# Altium schematic symbol library kmilo17pet-TI_BattMgmt.SchLib: 950 symbols (part 6 of 60)
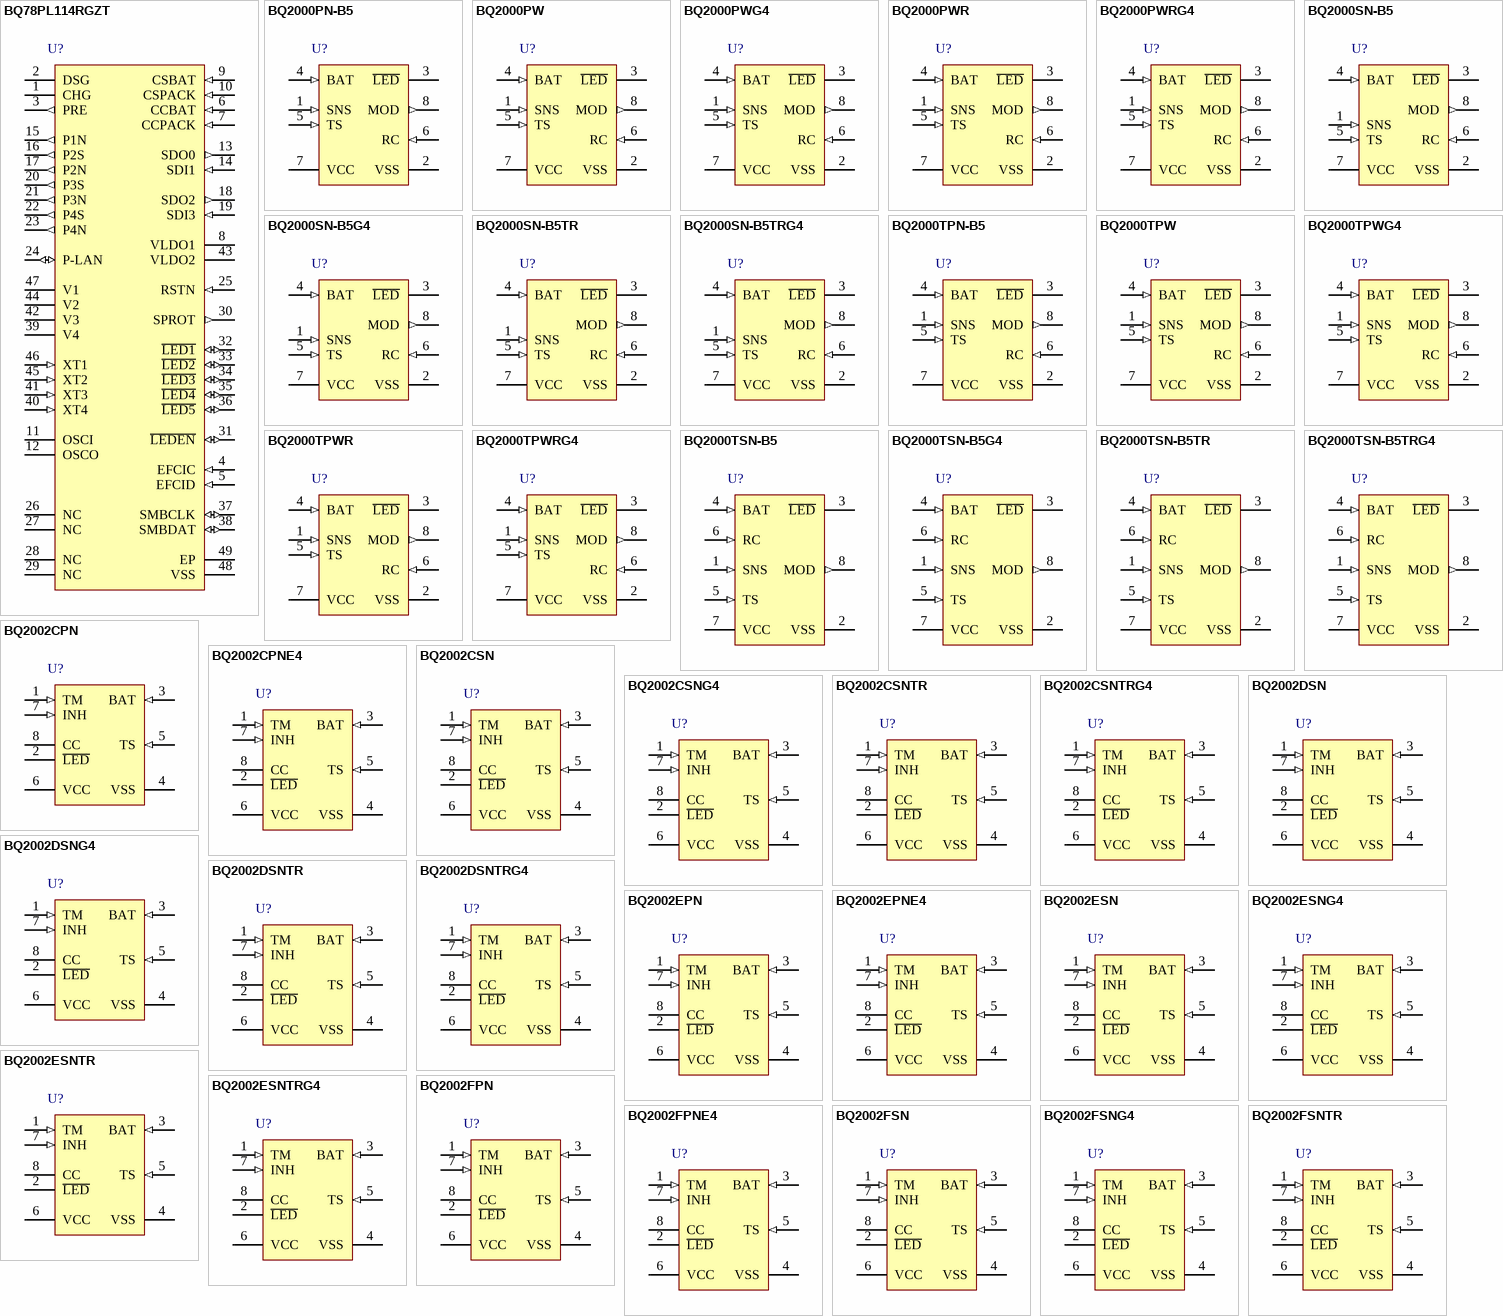
[diagram p39: symbols BQ78PL114RGZT to BQ2002FSNTR]

## BQ2000TPW
designator U?
Switch-Mode Multi-Chemistry Battery Charger with dT / dt Termination, 4 V, -20 to 70 degC, 8-pin TSSOP (PW), Green (RoHS & no Sb/Br); PartNumber: BQ2000TPW; Manufacturer: Texas Instruments; Lead Acid: N; Li-Ion: Y; SubFamily: Battery Charge Management; Vin(Min)(V): 4; DatasheetVersion: SLUS149D; PackageVersion: revG, Feb-2011; PackageReference: PW8; PackageDescription: 8-Pin Plastic Thin Small Outline Package 3 x 4.4 mm Body ,0.65 mm Pitch; Supplier 1: Digi-Key; Supplier Part Number 1: 296-12360-5-ND; Supplier Part Number 3: 595-BQ2000TPW; Eco-Plan: Green (RoHS & no Sb/Br); Li-Polymer: Y; NiCd: Y; NiMH: Y; Over Voltage Protection: N; Mounting Technology: Surface Mount; Code_JEDEC: MO-153; ComponentLink1Description: Datasheet; ComponentLink1URL: http://www.ti.com/general/docs/lit/getliterature.tsp?genericPartNumber=BQ2000T&fileType=pdf
footprint PW8_N (TSOP, 8-Leads, Body 3x4.4mm, Pitch 0.65mm, IPC Medium Density)
footprint PW8_L (TSOP, 8-Leads, Body 3x4.4mm, Pitch 0.65mm, IPC High Density)
footprint PW8_M (TSOP, 8-Leads, Body 3x4.4mm, Pitch 0.65mm, IPC Low Density)
pins: 1 SNS (in) "Current-sense input. Enables the bq2000T to sense the battery current via the voltage developed on this pin by an external sense-resistor connected in series with the battery pack", 2 VSS (power) "System ground. Connect to the battery¡¯s negative terminal", 3 ~{LED} (hiz) "Charge-status output. Open-drain output that indicates the charging status by turning on, turning off, or flashing an external LED, driven through a resistor.", 4 BAT (in) "Battery-voltage input. Battery-voltage sense input. A simple resistive divider, across the battery terminals, generates this input.", 5 TS (in) "Temperature-sense input. Input for an external battery-temperature monitoring circuit. An external resistive divider network with a negative temperature-coefficient thermistor sets the lower and upper temperature thresholds.", 6 RC (in) "Timer-program input. Used to program the maximum fast charge-time, maximum top-off charge-time, hold-off period, trickle charge rate, and to disable or enable top-off charge. A capacitor from VCC and a resistor to ground (See Datasheet)", 7 VCC (power) "Supply-voltage input. Recommended bypassing is 10 uF + 0.1 uF to 0.22 uF of decoupling capacitance near the pin.", 8 MOD (out) "Modulation-control output. Push-pull output that controls the charging current to the battery. MOD switches high to enable charging current to flow and low to inhibit charging-current flow."

## BQ2000TPWG4
designator U?
Switch-Mode Multi-Chemistry Battery Charger with dT / dt Termination, 4 V, -20 to 70 degC, 8-pin TSSOP (PW), Green (RoHS & no Sb/Br); PartNumber: BQ2000TPWG4; Manufacturer: Texas Instruments; Lead Acid: N; Li-Ion: Y; SubFamily: Battery Charge Management; Vin(Min)(V): 4; DatasheetVersion: SLUS149D; PackageVersion: revG, Feb-2011; PackageReference: PW8; PackageDescription: 8-Pin Plastic Thin Small Outline Package 3 x 4.4 mm Body ,0.65 mm Pitch; Supplier 1: Digi-Key; Supplier Part Number 1: BQ2000TPWG4-ND; Supplier Part Number 3: 595-BQ2000TPWG4; Eco-Plan: Green (RoHS & no Sb/Br); Li-Polymer: Y; NiCd: Y; NiMH: Y; Over Voltage Protection: N; Mounting Technology: Surface Mount; Code_JEDEC: MO-153; ComponentLink1Description: Datasheet; ComponentLink1URL: http://www.ti.com/general/docs/lit/getliterature.tsp?genericPartNumber=BQ2000T&fileType=pdf
footprint PW8_N (TSOP, 8-Leads, Body 3x4.4mm, Pitch 0.65mm, IPC Medium Density)
footprint PW8_L (TSOP, 8-Leads, Body 3x4.4mm, Pitch 0.65mm, IPC High Density)
footprint PW8_M (TSOP, 8-Leads, Body 3x4.4mm, Pitch 0.65mm, IPC Low Density)
pins: 1 SNS (in) "Current-sense input. Enables the bq2000T to sense the battery current via the voltage developed on this pin by an external sense-resistor connected in series with the battery pack", 2 VSS (power) "System ground. Connect to the battery¡¯s negative terminal", 3 ~{LED} (hiz) "Charge-status output. Open-drain output that indicates the charging status by turning on, turning off, or flashing an external LED, driven through a resistor.", 4 BAT (in) "Battery-voltage input. Battery-voltage sense input. A simple resistive divider, across the battery terminals, generates this input.", 5 TS (in) "Temperature-sense input. Input for an external battery-temperature monitoring circuit. An external resistive divider network with a negative temperature-coefficient thermistor sets the lower and upper temperature thresholds.", 6 RC (in) "Timer-program input. Used to program the maximum fast charge-time, maximum top-off charge-time, hold-off period, trickle charge rate, and to disable or enable top-off charge. A capacitor from VCC and a resistor to ground (See Datasheet)", 7 VCC (power) "Supply-voltage input. Recommended bypassing is 10 uF + 0.1 uF to 0.22 uF of decoupling capacitance near the pin.", 8 MOD (out) "Modulation-control output. Push-pull output that controls the charging current to the battery. MOD switches high to enable charging current to flow and low to inhibit charging-current flow."

## BQ2000TPWR
designator U?
Switch-Mode Multi-Chemistry Battery Charger with dT / dt Termination, 4 V, -20 to 70 degC, 8-pin TSSOP (PW), Green (RoHS & no Sb/Br); PartNumber: BQ2000TPWR; Manufacturer: Texas Instruments; Lead Acid: N; Li-Ion: Y; SubFamily: Battery Charge Management; Vin(Min)(V): 4; DatasheetVersion: SLUS149D; PackageVersion: revG, Feb-2011; PackageReference: PW8; PackageDescription: 8-Pin Plastic Thin Small Outline Package 3 x 4.4 mm Body ,0.65 mm Pitch; Supplier 1: Digi-Key; Supplier Part Number 1: BQ2000TPWR-ND; Supplier Part Number 3: 595-BQ2000TPWR; Eco-Plan: Green (RoHS & no Sb/Br); Li-Polymer: Y; NiCd: Y; NiMH: Y; Over Voltage Protection: N; Mounting Technology: Surface Mount; Code_JEDEC: MO-153; ComponentLink1Description: Datasheet; ComponentLink1URL: http://www.ti.com/general/docs/lit/getliterature.tsp?genericPartNumber=BQ2000T&fileType=pdf
footprint PW8_N (TSOP, 8-Leads, Body 3x4.4mm, Pitch 0.65mm, IPC Medium Density)
footprint PW8_L (TSOP, 8-Leads, Body 3x4.4mm, Pitch 0.65mm, IPC High Density)
footprint PW8_M (TSOP, 8-Leads, Body 3x4.4mm, Pitch 0.65mm, IPC Low Density)
pins: 1 SNS (in) "Current-sense input. Enables the bq2000T to sense the battery current via the voltage developed on this pin by an external sense-resistor connected in series with the battery pack", 2 VSS (power) "System ground. Connect to the battery¡¯s negative terminal", 3 ~{LED} (hiz) "Charge-status output. Open-drain output that indicates the charging status by turning on, turning off, or flashing an external LED, driven through a resistor.", 4 BAT (in) "Battery-voltage input. Battery-voltage sense input. A simple resistive divider, across the battery terminals, generates this input.", 5 TS (in) "Temperature-sense input. Input for an external battery-temperature monitoring circuit. An external resistive divider network with a negative temperature-coefficient thermistor sets the lower and upper temperature thresholds.", 6 RC (in) "Timer-program input. Used to program the maximum fast charge-time, maximum top-off charge-time, hold-off period, trickle charge rate, and to disable or enable top-off charge. A capacitor from VCC and a resistor to ground (See Datasheet)", 7 VCC (power) "Supply-voltage input. Recommended bypassing is 10 uF + 0.1 uF to 0.22 uF of decoupling capacitance near the pin.", 8 MOD (out) "Modulation-control output. Push-pull output that controls the charging current to the battery. MOD switches high to enable charging current to flow and low to inhibit charging-current flow."

## BQ2000TPWRG4
designator U?
Switch-Mode Multi-Chemistry Battery Charger with dT / dt Termination, 4 V, -20 to 70 degC, 8-pin TSSOP (PW), Green (RoHS & no Sb/Br); PartNumber: BQ2000TPWRG4; Manufacturer: Texas Instruments; Lead Acid: N; Li-Ion: Y; SubFamily: Battery Charge Management; Vin(Min)(V): 4; DatasheetVersion: SLUS149D; PackageVersion: revG, Feb-2011; PackageReference: PW8; PackageDescription: 8-Pin Plastic Thin Small Outline Package 3 x 4.4 mm Body ,0.65 mm Pitch; Supplier 1: Digi-Key; Supplier Part Number 1: BQ2000TPWRG4-ND; Supplier Part Number 3: 595-BQ2000TPWRG4; Eco-Plan: Green (RoHS & no Sb/Br); Li-Polymer: Y; NiCd: Y; NiMH: Y; Over Voltage Protection: N; Mounting Technology: Surface Mount; Code_JEDEC: MO-153; ComponentLink1Description: Datasheet; ComponentLink1URL: http://www.ti.com/general/docs/lit/getliterature.tsp?genericPartNumber=BQ2000T&fileType=pdf
footprint PW8_N (TSOP, 8-Leads, Body 3x4.4mm, Pitch 0.65mm, IPC Medium Density)
footprint PW8_L (TSOP, 8-Leads, Body 3x4.4mm, Pitch 0.65mm, IPC High Density)
footprint PW8_M (TSOP, 8-Leads, Body 3x4.4mm, Pitch 0.65mm, IPC Low Density)
pins: 1 SNS (in) "Current-sense input. Enables the bq2000T to sense the battery current via the voltage developed on this pin by an external sense-resistor connected in series with the battery pack", 2 VSS (power) "System ground. Connect to the battery¡¯s negative terminal", 3 ~{LED} (hiz) "Charge-status output. Open-drain output that indicates the charging status by turning on, turning off, or flashing an external LED, driven through a resistor.", 4 BAT (in) "Battery-voltage input. Battery-voltage sense input. A simple resistive divider, across the battery terminals, generates this input.", 5 TS (in) "Temperature-sense input. Input for an external battery-temperature monitoring circuit. An external resistive divider network with a negative temperature-coefficient thermistor sets the lower and upper temperature thresholds.", 6 RC (in) "Timer-program input. Used to program the maximum fast charge-time, maximum top-off charge-time, hold-off period, trickle charge rate, and to disable or enable top-off charge. A capacitor from VCC and a resistor to ground (See Datasheet)", 7 VCC (power) "Supply-voltage input. Recommended bypassing is 10 uF + 0.1 uF to 0.22 uF of decoupling capacitance near the pin.", 8 MOD (out) "Modulation-control output. Push-pull output that controls the charging current to the battery. MOD switches high to enable charging current to flow and low to inhibit charging-current flow."

## BQ2000TSN-B5
designator U?
Switch-Mode Multi-Chemistry Battery Charger with dT / dt Termination, 4 V, -20 to 70 degC, 8-pin SOIC (D), Green (RoHS & no Sb/Br); PartNumber: BQ2000TSN-B5; Manufacturer: Texas Instruments; Lead Acid: N; Li-Ion: Y; SubFamily: Battery Charge Management; Vin(Min)(V): 4; DatasheetVersion: SLUS149D; PackageVersion: revM, Jun-2011; PackageReference: D8; PackageDescription: 8-Pin Plastic Small Outline Integrated Circuit, 4.9 x 3.9 mm, Pitch 1.27 mm Pitch; Supplier 1: Digi-Key; Supplier Part Number 1: 296-9316-5-ND; Supplier Part Number 3: 74C7508; Eco-Plan: Green (RoHS & no Sb/Br); Li-Polymer: Y; NiCd: Y; NiMH: Y; Over Voltage Protection: N; Mounting Technology: Surface Mount; Code_JEDEC: MS-012AA; ComponentLink1Description: Datasheet; ComponentLink1URL: http://www.ti.com/general/docs/lit/getliterature.tsp?genericPartNumber=BQ2000T&fileType=pdf
footprint D8_N (SOIC, 8-Leads, Body 4.9x3.9mm, Pitch 1.27mm, IPC Medium Density)
footprint D8_L (SOIC, 8-Leads, Body 4.9x3.9mm, Pitch 1.27mm, IPC High Density)
footprint D8_M (SOIC, 8-Leads, Body 4.9x3.9mm, Pitch 1.27mm, IPC Low Density)
pins: 1 SNS (in) "Current-sense input.Enables the bq2000T to sense the battery current via the voltage developed on this pin by an external sense-resistor connected in series with the battery pack", 2 VSS (power) "System ground.Connect to the battery’s negative terminal", 3 ~{LED} (hiz) "Charge-status output.Open-drain output that indicates the charging status by turning on, turning off, or flashing an external", 4 BAT (in) "Battery-voltage input. Battery-voltage sense input. A simple resistive divider, across the battery terminals, generates this", 5 TS (in) "Temperature-sense input.Input for an external battery-temperature monitoring circuit. An external resistive divider network with a negative temperature-coefficient thermistor sets the lower and upper temperature thresholds.", 6 RC (in) "Timer-program input.Used to program the maximum fast charge-time, maximum top-off charge-time, hold-off period, trickle charge rate, and to disable or enable top-off charge. A capacitor from VCC and a resistor to ground (See Datasheet)", 7 VCC (power) "Supply-voltage input.Recommended bypassing is 10 µF + 0.1 µF to 0.22 µF of decoupling capacitance near the pin.", 8 MOD (out) "Modulation-control output.Push-pull output that controls the charging current to the battery. MOD switches high to enable charging current to flow and low to inhibit charging-current flow."

## BQ2000TSN-B5G4
designator U?
Switch-Mode Multi-Chemistry Battery Charger with dT / dt Termination, 4 V, -20 to 70 degC, 8-pin SOIC (D), Green (RoHS & no Sb/Br); PartNumber: BQ2000TSN-B5G4; Manufacturer: Texas Instruments; Lead Acid: N; Li-Ion: Y; SubFamily: Battery Charge Management; Vin(Min)(V): 4; DatasheetVersion: SLUS149D; PackageVersion: revM, Jun-2011; PackageReference: D8; PackageDescription: 8-Pin Plastic Small Outline Integrated Circuit, 4.9 x 3.9 mm, Pitch 1.27 mm Pitch; Supplier 1: Digi-Key; Supplier Part Number 1: BQ2000TSN-B5G4-ND; Supplier Part Number 3: 595-BQ2000TSN-B5G4; Eco-Plan: Green (RoHS & no Sb/Br); Li-Polymer: Y; NiCd: Y; NiMH: Y; Over Voltage Protection: N; Mounting Technology: Surface Mount; Code_JEDEC: MS-012AA; ComponentLink1Description: Datasheet; ComponentLink1URL: http://www.ti.com/general/docs/lit/getliterature.tsp?genericPartNumber=BQ2000T&fileType=pdf
footprint D8_N (SOIC, 8-Leads, Body 4.9x3.9mm, Pitch 1.27mm, IPC Medium Density)
footprint D8_L (SOIC, 8-Leads, Body 4.9x3.9mm, Pitch 1.27mm, IPC High Density)
footprint D8_M (SOIC, 8-Leads, Body 4.9x3.9mm, Pitch 1.27mm, IPC Low Density)
pins: 1 SNS (in) "Current-sense input.Enables the bq2000T to sense the battery current via the voltage developed on this pin by an external sense-resistor connected in series with the battery pack", 2 VSS (power) "System ground.Connect to the battery’s negative terminal", 3 ~{LED} (hiz) "Charge-status output.Open-drain output that indicates the charging status by turning on, turning off, or flashing an external", 4 BAT (in) "Battery-voltage input. Battery-voltage sense input. A simple resistive divider, across the battery terminals, generates this", 5 TS (in) "Temperature-sense input.Input for an external battery-temperature monitoring circuit. An external resistive divider network with a negative temperature-coefficient thermistor sets the lower and upper temperature thresholds.", 6 RC (in) "Timer-program input.Used to program the maximum fast charge-time, maximum top-off charge-time, hold-off period, trickle charge rate, and to disable or enable top-off charge. A capacitor from VCC and a resistor to ground (See Datasheet)", 7 VCC (power) "Supply-voltage input.Recommended bypassing is 10 µF + 0.1 µF to 0.22 µF of decoupling capacitance near the pin.", 8 MOD (out) "Modulation-control output.Push-pull output that controls the charging current to the battery. MOD switches high to enable charging current to flow and low to inhibit charging-current flow."

## BQ2000TSN-B5TR
designator U?
Switch-Mode Multi-Chemistry Battery Charger with dT / dt Termination, 4 V, -20 to 70 degC, 8-pin SOIC (D), Green (RoHS & no Sb/Br); PartNumber: BQ2000TSN-B5TR; Manufacturer: Texas Instruments; Lead Acid: N; Li-Ion: Y; SubFamily: Battery Charge Management; Vin(Min)(V): 4; DatasheetVersion: SLUS149D; PackageVersion: revM, Jun-2011; PackageReference: D8; PackageDescription: 8-Pin Plastic Small Outline Integrated Circuit, 4.9 x 3.9 mm, Pitch 1.27 mm Pitch; Supplier 1: Digi-Key; Supplier Part Number 1: BQ2000TSN-B5TR-ND; Supplier Part Number 3: 595-BQ2000TSN-B5TR; Eco-Plan: Green (RoHS & no Sb/Br); Li-Polymer: Y; NiCd: Y; NiMH: Y; Over Voltage Protection: N; Mounting Technology: Surface Mount; Code_JEDEC: MS-012AA; ComponentLink1Description: Datasheet; ComponentLink1URL: http://www.ti.com/general/docs/lit/getliterature.tsp?genericPartNumber=BQ2000T&fileType=pdf
footprint D8_N (SOIC, 8-Leads, Body 4.9x3.9mm, Pitch 1.27mm, IPC Medium Density)
footprint D8_L (SOIC, 8-Leads, Body 4.9x3.9mm, Pitch 1.27mm, IPC High Density)
footprint D8_M (SOIC, 8-Leads, Body 4.9x3.9mm, Pitch 1.27mm, IPC Low Density)
pins: 1 SNS (in) "Current-sense input.Enables the bq2000T to sense the battery current via the voltage developed on this pin by an external sense-resistor connected in series with the battery pack", 2 VSS (power) "System ground.Connect to the battery’s negative terminal", 3 ~{LED} (hiz) "Charge-status output.Open-drain output that indicates the charging status by turning on, turning off, or flashing an external", 4 BAT (in) "Battery-voltage input. Battery-voltage sense input. A simple resistive divider, across the battery terminals, generates this", 5 TS (in) "Temperature-sense input.Input for an external battery-temperature monitoring circuit. An external resistive divider network with a negative temperature-coefficient thermistor sets the lower and upper temperature thresholds.", 6 RC (in) "Timer-program input.Used to program the maximum fast charge-time, maximum top-off charge-time, hold-off period, trickle charge rate, and to disable or enable top-off charge. A capacitor from VCC and a resistor to ground (See Datasheet)", 7 VCC (power) "Supply-voltage input.Recommended bypassing is 10 µF + 0.1 µF to 0.22 µF of decoupling capacitance near the pin.", 8 MOD (out) "Modulation-control output.Push-pull output that controls the charging current to the battery. MOD switches high to enable charging current to flow and low to inhibit charging-current flow."

## BQ2000TSN-B5TRG4
designator U?
Switch-Mode Multi-Chemistry Battery Charger with dT / dt Termination, 4 V, -20 to 70 degC, 8-pin SOIC (D), Green (RoHS & no Sb/Br); PartNumber: BQ2000TSN-B5TRG4; Manufacturer: Texas Instruments; Lead Acid: N; Li-Ion: Y; SubFamily: Battery Charge Management; Vin(Min)(V): 4; DatasheetVersion: SLUS149D; PackageVersion: revM, Jun-2011; PackageReference: D8; PackageDescription: 8-Pin Plastic Small Outline Integrated Circuit, 4.9 x 3.9 mm, Pitch 1.27 mm Pitch; Supplier 1: Digi-Key; Supplier Part Number 1: BQ2000TSN-B5TRG4-ND; Supplier Part Number 3: 595-BQ2000TSN-B5TRG4; Eco-Plan: Green (RoHS & no Sb/Br); Li-Polymer: Y; NiCd: Y; NiMH: Y; Over Voltage Protection: N; Mounting Technology: Surface Mount; Code_JEDEC: MS-012AA; ComponentLink1Description: Datasheet; ComponentLink1URL: http://www.ti.com/general/docs/lit/getliterature.tsp?genericPartNumber=BQ2000T&fileType=pdf
footprint D8_N (SOIC, 8-Leads, Body 4.9x3.9mm, Pitch 1.27mm, IPC Medium Density)
footprint D8_L (SOIC, 8-Leads, Body 4.9x3.9mm, Pitch 1.27mm, IPC High Density)
footprint D8_M (SOIC, 8-Leads, Body 4.9x3.9mm, Pitch 1.27mm, IPC Low Density)
pins: 1 SNS (in) "Current-sense input.Enables the bq2000T to sense the battery current via the voltage developed on this pin by an external sense-resistor connected in series with the battery pack", 2 VSS (power) "System ground.Connect to the battery’s negative terminal", 3 ~{LED} (hiz) "Charge-status output.Open-drain output that indicates the charging status by turning on, turning off, or flashing an external", 4 BAT (in) "Battery-voltage input. Battery-voltage sense input. A simple resistive divider, across the battery terminals, generates this", 5 TS (in) "Temperature-sense input.Input for an external battery-temperature monitoring circuit. An external resistive divider network with a negative temperature-coefficient thermistor sets the lower and upper temperature thresholds.", 6 RC (in) "Timer-program input.Used to program the maximum fast charge-time, maximum top-off charge-time, hold-off period, trickle charge rate, and to disable or enable top-off charge. A capacitor from VCC and a resistor to ground (See Datasheet)", 7 VCC (power) "Supply-voltage input.Recommended bypassing is 10 µF + 0.1 µF to 0.22 µF of decoupling capacitance near the pin.", 8 MOD (out) "Modulation-control output.Push-pull output that controls the charging current to the battery. MOD switches high to enable charging current to flow and low to inhibit charging-current flow."

## BQ2002CPN
designator U?
NiCd / NiMH Charge Controller with Negative dV and Peak Voltage Detection Termination, 4 V, 0 to 70 degC, 8-pin PDIP (P), Pb-Free (RoHS); PartNumber: BQ2002CPN; Manufacturer: Texas Instruments; Lead Acid: N; NiCd: Y; SubFamily: Battery Charge Management; Vin(Min)(V): 4; DatasheetVersion: SLUS136; PackageVersion: revE, Apr-2010; PackageReference: P8; PackageDescription: 8-Pin Plastic Dual-In-Line Package, Row Spacing 7.62 mm, Pitch 2.54 mm; Supplier 1: Digi-Key; Supplier Part Number 1: 296-9317-5-ND; Supplier Part Number 3: 74C7510; Eco-Plan: Pb-Free (RoHS); Li-Ion: N; Li-Polymer: N; NiMH: Y; Over Voltage Protection: N; Mounting Technology: Through Hole; Code_JEDEC: MS-001-BA; ComponentLink1Description: Datasheet; ComponentLink1URL: http://www.ti.com/general/docs/lit/getliterature.tsp?genericPartNumber=BQ2002C&fileType=pdf
footprint P8 (DIP, 8-Leads, Row Spacing 7.62mm, Pitch 2.54mm, Body 9.6x6.4mm)
pins: 1 TM (in) "Timer mode input. A three-level input that controls the settings for the fast charge safety timer, voltage termination mode, top-off, pulse-trickle, and voltage hold-off time.", 2 ~{LED} (hiz) "Charging output status. Open-drain output that indicates the charging status.", 3 BAT (in) "Battery input voltage. The battery voltage sense input. The input to this pin is created by a high-impedance resistor divider network connected between the positive and negative terminals of the battery.", 4 VSS (power) "System ground.", 5 TS (in) "Temperature sense input. Input for an external battery temperature monitoring thermistor.", 6 VCC (power) "Supply voltage input. 5.0V +/-20%power input.", 7 INH (in) "Charge inhibit input. When high, INH suspends the fast charge in progress. When returned low, the IC resumes operation at the point where initially suspended.", 8 CC (hiz) "Charge control output. An open-drain output used to control the charging current to the battery. CC switching to high impedance (Z) enables charging current to flow, and low to inhibit charging current. CC is modulated to (See Datasheet)"

## BQ2002CPNE4
designator U?
NiCd / NiMH Charge Controller with Negative dV and Peak Voltage Detection Termination, 4 V, 0 to 70 degC, 8-pin PDIP (P), Pb-Free (RoHS); PartNumber: BQ2002CPNE4; Manufacturer: Texas Instruments; Lead Acid: N; NiCd: Y; SubFamily: Battery Charge Management; Vin(Min)(V): 4; DatasheetVersion: SLUS136; PackageVersion: revE, Apr-2010; PackageReference: P8; PackageDescription: 8-Pin Plastic Dual-In-Line Package, Row Spacing 7.62 mm, Pitch 2.54 mm; Supplier 1: Digi-Key; Supplier Part Number 1: BQ2002CPNE4-ND; Supplier Part Number 3: 595-BQ2002CPNE4; Eco-Plan: Pb-Free (RoHS); Li-Ion: N; Li-Polymer: N; NiMH: Y; Over Voltage Protection: N; Mounting Technology: Through Hole; Code_JEDEC: MS-001-BA; ComponentLink1Description: Datasheet; ComponentLink1URL: http://www.ti.com/general/docs/lit/getliterature.tsp?genericPartNumber=BQ2002C&fileType=pdf
footprint P8 (DIP, 8-Leads, Row Spacing 7.62mm, Pitch 2.54mm, Body 9.6x6.4mm)
pins: 1 TM (in) "Timer mode input. A three-level input that controls the settings for the fast charge safety timer, voltage termination mode, top-off, pulse-trickle, and voltage hold-off time.", 2 ~{LED} (hiz) "Charging output status. Open-drain output that indicates the charging status.", 3 BAT (in) "Battery input voltage. The battery voltage sense input. The input to this pin is created by a high-impedance resistor divider network connected between the positive and negative terminals of the battery.", 4 VSS (power) "System ground.", 5 TS (in) "Temperature sense input. Input for an external battery temperature monitoring thermistor.", 6 VCC (power) "Supply voltage input. 5.0V +/-20%power input.", 7 INH (in) "Charge inhibit input. When high, INH suspends the fast charge in progress. When returned low, the IC resumes operation at the point where initially suspended.", 8 CC (hiz) "Charge control output. An open-drain output used to control the charging current to the battery. CC switching to high impedance (Z) enables charging current to flow, and low to inhibit charging current. CC is modulated to (See Datasheet)"

## BQ2002CSN
designator U?
NiCd / NiMH Charge Controller with Negative dV and Peak Voltage Detection Termination, 4 V, 0 to 70 degC, 8-pin SOIC (D), Green (RoHS & no Sb/Br); PartNumber: BQ2002CSN; Manufacturer: Texas Instruments; Lead Acid: N; NiCd: Y; SubFamily: Battery Charge Management; Vin(Min)(V): 4; DatasheetVersion: SLUS136; PackageVersion: revM, Jun-2011; PackageReference: D8; PackageDescription: 8-Pin Plastic Small Outline Integrated Circuit, 4.9 x 3.9 mm, Pitch 1.27 mm Pitch; Supplier 1: Digi-Key; Supplier Part Number 1: 296-9318-5-ND; Supplier Part Number 3: 74C7511; Eco-Plan: Green (RoHS & no Sb/Br); Li-Ion: N; Li-Polymer: N; NiMH: Y; Over Voltage Protection: N; Mounting Technology: Surface Mount; Code_JEDEC: MS-012AA; ComponentLink1Description: Datasheet; ComponentLink1URL: http://www.ti.com/general/docs/lit/getliterature.tsp?genericPartNumber=BQ2002C&fileType=pdf
footprint D8_N (SOIC, 8-Leads, Body 4.9x3.9mm, Pitch 1.27mm, IPC Medium Density)
footprint D8_L (SOIC, 8-Leads, Body 4.9x3.9mm, Pitch 1.27mm, IPC High Density)
footprint D8_M (SOIC, 8-Leads, Body 4.9x3.9mm, Pitch 1.27mm, IPC Low Density)
pins: 1 TM (in) "Timer mode input. A three-level input that controls the settings for the fast charge safety timer, voltage termination mode, top-off, pulse-trickle, and voltage hold-off time.", 2 ~{LED} (hiz) "Charging output status. Open-drain output that indicates the charging status.", 3 BAT (in) "Battery input voltage. The battery voltage sense input. The input to this pin is created by a high-impedance resistor divider network connected between the positive and negative terminals of the battery.", 4 VSS (power) "System ground.", 5 TS (in) "Temperature sense input. Input for an external battery temperature monitoring thermistor.", 6 VCC (power) "Supply voltage input. 5.0V +/-20%power input.", 7 INH (in) "Charge inhibit input. When high, INH suspends the fast charge in progress. When returned low, the IC resumes operation at the point where initially suspended.", 8 CC (hiz) "Charge control output. An open-drain output used to control the charging current to the battery. CC switching to high impedance (Z) enables charging current to flow, and low to inhibit charging current. CC is modulated to (See Datasheet)"

## BQ2002CSNG4
designator U?
NiCd / NiMH Charge Controller with Negative dV and Peak Voltage Detection Termination, 4 V, 0 to 70 degC, 8-pin SOIC (D), Green (RoHS & no Sb/Br); PartNumber: BQ2002CSNG4; Manufacturer: Texas Instruments; Lead Acid: N; NiCd: Y; SubFamily: Battery Charge Management; Vin(Min)(V): 4; DatasheetVersion: SLUS136; PackageVersion: revM, Jun-2011; PackageReference: D8; PackageDescription: 8-Pin Plastic Small Outline Integrated Circuit, 4.9 x 3.9 mm, Pitch 1.27 mm Pitch; Supplier 1: Digi-Key; Supplier Part Number 1: BQ2002CSNG4-ND; Supplier Part Number 3: 595-BQ2002CSNG4; Eco-Plan: Green (RoHS & no Sb/Br); Li-Ion: N; Li-Polymer: N; NiMH: Y; Over Voltage Protection: N; Mounting Technology: Surface Mount; Code_JEDEC: MS-012AA; ComponentLink1Description: Datasheet; ComponentLink1URL: http://www.ti.com/general/docs/lit/getliterature.tsp?genericPartNumber=BQ2002C&fileType=pdf
footprint D8_N (SOIC, 8-Leads, Body 4.9x3.9mm, Pitch 1.27mm, IPC Medium Density)
footprint D8_L (SOIC, 8-Leads, Body 4.9x3.9mm, Pitch 1.27mm, IPC High Density)
footprint D8_M (SOIC, 8-Leads, Body 4.9x3.9mm, Pitch 1.27mm, IPC Low Density)
pins: 1 TM (in) "Timer mode input. A three-level input that controls the settings for the fast charge safety timer, voltage termination mode, top-off, pulse-trickle, and voltage hold-off time.", 2 ~{LED} (hiz) "Charging output status. Open-drain output that indicates the charging status.", 3 BAT (in) "Battery input voltage. The battery voltage sense input. The input to this pin is created by a high-impedance resistor divider network connected between the positive and negative terminals of the battery.", 4 VSS (power) "System ground.", 5 TS (in) "Temperature sense input. Input for an external battery temperature monitoring thermistor.", 6 VCC (power) "Supply voltage input. 5.0V +/-20%power input.", 7 INH (in) "Charge inhibit input. When high, INH suspends the fast charge in progress. When returned low, the IC resumes operation at the point where initially suspended.", 8 CC (hiz) "Charge control output. An open-drain output used to control the charging current to the battery. CC switching to high impedance (Z) enables charging current to flow, and low to inhibit charging current. CC is modulated to (See Datasheet)"

## BQ2002CSNTR
designator U?
NiCd / NiMH Charge Controller with Negative dV and Peak Voltage Detection Termination, 4 V, 0 to 70 degC, 8-pin SOIC (D), Green (RoHS & no Sb/Br); PartNumber: BQ2002CSNTR; Manufacturer: Texas Instruments; Lead Acid: N; NiCd: Y; SubFamily: Battery Charge Management; Vin(Min)(V): 4; DatasheetVersion: SLUS136; PackageVersion: revM, Jun-2011; PackageReference: D8; PackageDescription: 8-Pin Plastic Small Outline Integrated Circuit, 4.9 x 3.9 mm, Pitch 1.27 mm Pitch; Supplier 1: Digi-Key; Supplier Part Number 1: BQ2002CSNTR-ND; Supplier Part Number 3: 595-BQ2002CSNTR; Eco-Plan: Green (RoHS & no Sb/Br); Li-Ion: N; Li-Polymer: N; NiMH: Y; Over Voltage Protection: N; Mounting Technology: Surface Mount; Code_JEDEC: MS-012AA; ComponentLink1Description: Datasheet; ComponentLink1URL: http://www.ti.com/general/docs/lit/getliterature.tsp?genericPartNumber=BQ2002C&fileType=pdf
footprint D8_N (SOIC, 8-Leads, Body 4.9x3.9mm, Pitch 1.27mm, IPC Medium Density)
footprint D8_L (SOIC, 8-Leads, Body 4.9x3.9mm, Pitch 1.27mm, IPC High Density)
footprint D8_M (SOIC, 8-Leads, Body 4.9x3.9mm, Pitch 1.27mm, IPC Low Density)
pins: 1 TM (in) "Timer mode input. A three-level input that controls the settings for the fast charge safety timer, voltage termination mode, top-off, pulse-trickle, and voltage hold-off time.", 2 ~{LED} (hiz) "Charging output status. Open-drain output that indicates the charging status.", 3 BAT (in) "Battery input voltage. The battery voltage sense input. The input to this pin is created by a high-impedance resistor divider network connected between the positive and negative terminals of the battery.", 4 VSS (power) "System ground.", 5 TS (in) "Temperature sense input. Input for an external battery temperature monitoring thermistor.", 6 VCC (power) "Supply voltage input. 5.0V +/-20%power input.", 7 INH (in) "Charge inhibit input. When high, INH suspends the fast charge in progress. When returned low, the IC resumes operation at the point where initially suspended.", 8 CC (hiz) "Charge control output. An open-drain output used to control the charging current to the battery. CC switching to high impedance (Z) enables charging current to flow, and low to inhibit charging current. CC is modulated to (See Datasheet)"

## BQ2002CSNTRG4
designator U?
NiCd / NiMH Charge Controller with Negative dV and Peak Voltage Detection Termination, 4 V, 0 to 70 degC, 8-pin SOIC (D), Green (RoHS & no Sb/Br); PartNumber: BQ2002CSNTRG4; Manufacturer: Texas Instruments; Lead Acid: N; NiCd: Y; SubFamily: Battery Charge Management; Vin(Min)(V): 4; DatasheetVersion: SLUS136; PackageVersion: revM, Jun-2011; PackageReference: D8; PackageDescription: 8-Pin Plastic Small Outline Integrated Circuit, 4.9 x 3.9 mm, Pitch 1.27 mm Pitch; Supplier 1: Digi-Key; Supplier Part Number 1: BQ2002CSNTRG4-ND; Supplier Part Number 3: 595-BQ2002CSNTRG4; Eco-Plan: Green (RoHS & no Sb/Br); Li-Ion: N; Li-Polymer: N; NiMH: Y; Over Voltage Protection: N; Mounting Technology: Surface Mount; Code_JEDEC: MS-012AA; ComponentLink1Description: Datasheet; ComponentLink1URL: http://www.ti.com/general/docs/lit/getliterature.tsp?genericPartNumber=BQ2002C&fileType=pdf
footprint D8_N (SOIC, 8-Leads, Body 4.9x3.9mm, Pitch 1.27mm, IPC Medium Density)
footprint D8_L (SOIC, 8-Leads, Body 4.9x3.9mm, Pitch 1.27mm, IPC High Density)
footprint D8_M (SOIC, 8-Leads, Body 4.9x3.9mm, Pitch 1.27mm, IPC Low Density)
pins: 1 TM (in) "Timer mode input. A three-level input that controls the settings for the fast charge safety timer, voltage termination mode, top-off, pulse-trickle, and voltage hold-off time.", 2 ~{LED} (hiz) "Charging output status. Open-drain output that indicates the charging status.", 3 BAT (in) "Battery input voltage. The battery voltage sense input. The input to this pin is created by a high-impedance resistor divider network connected between the positive and negative terminals of the battery.", 4 VSS (power) "System ground.", 5 TS (in) "Temperature sense input. Input for an external battery temperature monitoring thermistor.", 6 VCC (power) "Supply voltage input. 5.0V +/-20%power input.", 7 INH (in) "Charge inhibit input. When high, INH suspends the fast charge in progress. When returned low, the IC resumes operation at the point where initially suspended.", 8 CC (hiz) "Charge control output. An open-drain output used to control the charging current to the battery. CC switching to high impedance (Z) enables charging current to flow, and low to inhibit charging current. CC is modulated to (See Datasheet)"

## BQ2002DSN
designator U?
NiCd / NiMH Charge Controller with dT / dt Termination, 4 V, 0 to 70 degC, 8-pin SOIC (D), Green (RoHS & no Sb/Br); PartNumber: BQ2002DSN; Manufacturer: Texas Instruments; Lead Acid: N; NiCd: Y; SubFamily: Battery Charge Management; Vin(Min)(V): 4; DatasheetVersion: SLUS133; PackageVersion: revM, Jun-2011; PackageReference: D8; PackageDescription: 8-Pin Plastic Small Outline Integrated Circuit, 4.9 x 3.9 mm, Pitch 1.27 mm Pitch; Supplier 1: Digi-Key; Supplier Part Number 1: 296-9319-5-ND; Supplier Part Number 3: 595-BQ2002DSN; Eco-Plan: Green (RoHS & no Sb/Br); Li-Ion: N; Li-Polymer: N; NiMH: Y; Over Voltage Protection: N; Mounting Technology: Surface Mount; Code_JEDEC: MS-012AA; ComponentLink1Description: Datasheet; ComponentLink1URL: http://www.ti.com/general/docs/lit/getliterature.tsp?genericPartNumber=BQ2002D&fileType=pdf
footprint D8_N (SOIC, 8-Leads, Body 4.9x3.9mm, Pitch 1.27mm, IPC Medium Density)
footprint D8_L (SOIC, 8-Leads, Body 4.9x3.9mm, Pitch 1.27mm, IPC High Density)
footprint D8_M (SOIC, 8-Leads, Body 4.9x3.9mm, Pitch 1.27mm, IPC Low Density)
pins: 1 TM (in) "Timer mode input. A three-level input that controls the settings for the fast charge safety timer, voltage termination mode, top-off, pulse-trickle, and voltage hold-off time.", 2 ~{LED} (hiz) "Charging output status. Open-drain output that indicates the charging status.", 3 BAT (in) "Battery input voltage. The battery voltage sense input. The input to this pin is created by a high-impedance resistor divider network connected between the positive and negative terminals of the battery.", 4 VSS (power) "System ground.", 5 TS (in) "Temperature sense input. Input for an external battery temperature monitoring thermistor.", 6 VCC (power) "Supply voltage input. 5.0V +/-20%power input.", 7 INH (in) "Charge inhibit input. When high, INH suspends the fast charge in progress. When returned low, the IC resumes operation at the point where initially suspended.", 8 CC (hiz) "Charge control output. An open-drain output used to control the charging current to the battery. CC switching to high impedance (Z) enables charging current to flow, and low to inhibit charging current. CC is modulated to (See Datasheet)"

## BQ2002DSNG4
designator U?
NiCd / NiMH Charge Controller with dT / dt Termination, 4 V, 0 to 70 degC, 8-pin SOIC (D), Green (RoHS & no Sb/Br); PartNumber: BQ2002DSNG4; Manufacturer: Texas Instruments; Lead Acid: N; NiCd: Y; SubFamily: Battery Charge Management; Vin(Min)(V): 4; DatasheetVersion: SLUS133; PackageVersion: revM, Jun-2011; PackageReference: D8; PackageDescription: 8-Pin Plastic Small Outline Integrated Circuit, 4.9 x 3.9 mm, Pitch 1.27 mm Pitch; Supplier 1: Digi-Key; Supplier Part Number 1: BQ2002DSNG4-ND; Supplier Part Number 3: 595-BQ2002DSNG4; Eco-Plan: Green (RoHS & no Sb/Br); Li-Ion: N; Li-Polymer: N; NiMH: Y; Over Voltage Protection: N; Mounting Technology: Surface Mount; Code_JEDEC: MS-012AA; ComponentLink1Description: Datasheet; ComponentLink1URL: http://www.ti.com/general/docs/lit/getliterature.tsp?genericPartNumber=BQ2002D&fileType=pdf
footprint D8_N (SOIC, 8-Leads, Body 4.9x3.9mm, Pitch 1.27mm, IPC Medium Density)
footprint D8_L (SOIC, 8-Leads, Body 4.9x3.9mm, Pitch 1.27mm, IPC High Density)
footprint D8_M (SOIC, 8-Leads, Body 4.9x3.9mm, Pitch 1.27mm, IPC Low Density)
pins: 1 TM (in) "Timer mode input. A three-level input that controls the settings for the fast charge safety timer, voltage termination mode, top-off, pulse-trickle, and voltage hold-off time.", 2 ~{LED} (hiz) "Charging output status. Open-drain output that indicates the charging status.", 3 BAT (in) "Battery input voltage. The battery voltage sense input. The input to this pin is created by a high-impedance resistor divider network connected between the positive and negative terminals of the battery.", 4 VSS (power) "System ground.", 5 TS (in) "Temperature sense input. Input for an external battery temperature monitoring thermistor.", 6 VCC (power) "Supply voltage input. 5.0V +/-20%power input.", 7 INH (in) "Charge inhibit input. When high, INH suspends the fast charge in progress. When returned low, the IC resumes operation at the point where initially suspended.", 8 CC (hiz) "Charge control output. An open-drain output used to control the charging current to the battery. CC switching to high impedance (Z) enables charging current to flow, and low to inhibit charging current. CC is modulated to (See Datasheet)"

## BQ2002DSNTR
designator U?
NiCd / NiMH Charge Controller with dT / dt Termination, 4 V, 0 to 70 degC, 8-pin SOIC (D), Green (RoHS & no Sb/Br); PartNumber: BQ2002DSNTR; Manufacturer: Texas Instruments; Lead Acid: N; NiCd: Y; SubFamily: Battery Charge Management; Vin(Min)(V): 4; DatasheetVersion: SLUS133; PackageVersion: revM, Jun-2011; PackageReference: D8; PackageDescription: 8-Pin Plastic Small Outline Integrated Circuit, 4.9 x 3.9 mm, Pitch 1.27 mm Pitch; Supplier 1: Digi-Key; Supplier Part Number 1: BQ2002DSNTR-ND; Supplier Part Number 3: 595-BQ2002DSNTR; Eco-Plan: Green (RoHS & no Sb/Br); Li-Ion: N; Li-Polymer: N; NiMH: Y; Over Voltage Protection: N; Mounting Technology: Surface Mount; Code_JEDEC: MS-012AA; ComponentLink1Description: Datasheet; ComponentLink1URL: http://www.ti.com/general/docs/lit/getliterature.tsp?genericPartNumber=BQ2002D&fileType=pdf
footprint D8_N (SOIC, 8-Leads, Body 4.9x3.9mm, Pitch 1.27mm, IPC Medium Density)
footprint D8_L (SOIC, 8-Leads, Body 4.9x3.9mm, Pitch 1.27mm, IPC High Density)
footprint D8_M (SOIC, 8-Leads, Body 4.9x3.9mm, Pitch 1.27mm, IPC Low Density)
pins: 1 TM (in) "Timer mode input. A three-level input that controls the settings for the fast charge safety timer, voltage termination mode, top-off, pulse-trickle, and voltage hold-off time.", 2 ~{LED} (hiz) "Charging output status. Open-drain output that indicates the charging status.", 3 BAT (in) "Battery input voltage. The battery voltage sense input. The input to this pin is created by a high-impedance resistor divider network connected between the positive and negative terminals of the battery.", 4 VSS (power) "System ground.", 5 TS (in) "Temperature sense input. Input for an external battery temperature monitoring thermistor.", 6 VCC (power) "Supply voltage input. 5.0V +/-20%power input.", 7 INH (in) "Charge inhibit input. When high, INH suspends the fast charge in progress. When returned low, the IC resumes operation at the point where initially suspended.", 8 CC (hiz) "Charge control output. An open-drain output used to control the charging current to the battery. CC switching to high impedance (Z) enables charging current to flow, and low to inhibit charging current. CC is modulated to (See Datasheet)"

## BQ2002DSNTRG4
designator U?
NiCd / NiMH Charge Controller with dT / dt Termination, 4 V, 0 to 70 degC, 8-pin SOIC (D), Green (RoHS & no Sb/Br); PartNumber: BQ2002DSNTRG4; Manufacturer: Texas Instruments; Lead Acid: N; NiCd: Y; SubFamily: Battery Charge Management; Vin(Min)(V): 4; DatasheetVersion: SLUS133; PackageVersion: revM, Jun-2011; PackageReference: D8; PackageDescription: 8-Pin Plastic Small Outline Integrated Circuit, 4.9 x 3.9 mm, Pitch 1.27 mm Pitch; Supplier 1: Digi-Key; Supplier Part Number 1: BQ2002DSNTRG4-ND; Supplier Part Number 3: 595-BQ2002DSNTRG4; Eco-Plan: Green (RoHS & no Sb/Br); Li-Ion: N; Li-Polymer: N; NiMH: Y; Over Voltage Protection: N; Mounting Technology: Surface Mount; Code_JEDEC: MS-012AA; ComponentLink1Description: Datasheet; ComponentLink1URL: http://www.ti.com/general/docs/lit/getliterature.tsp?genericPartNumber=BQ2002D&fileType=pdf
footprint D8_N (SOIC, 8-Leads, Body 4.9x3.9mm, Pitch 1.27mm, IPC Medium Density)
footprint D8_L (SOIC, 8-Leads, Body 4.9x3.9mm, Pitch 1.27mm, IPC High Density)
footprint D8_M (SOIC, 8-Leads, Body 4.9x3.9mm, Pitch 1.27mm, IPC Low Density)
pins: 1 TM (in) "Timer mode input. A three-level input that controls the settings for the fast charge safety timer, voltage termination mode, top-off, pulse-trickle, and voltage hold-off time.", 2 ~{LED} (hiz) "Charging output status. Open-drain output that indicates the charging status.", 3 BAT (in) "Battery input voltage. The battery voltage sense input. The input to this pin is created by a high-impedance resistor divider network connected between the positive and negative terminals of the battery.", 4 VSS (power) "System ground.", 5 TS (in) "Temperature sense input. Input for an external battery temperature monitoring thermistor.", 6 VCC (power) "Supply voltage input. 5.0V +/-20%power input.", 7 INH (in) "Charge inhibit input. When high, INH suspends the fast charge in progress. When returned low, the IC resumes operation at the point where initially suspended.", 8 CC (hiz) "Charge control output. An open-drain output used to control the charging current to the battery. CC switching to high impedance (Z) enables charging current to flow, and low to inhibit charging current. CC is modulated to (See Datasheet)"

## BQ2002EPN
designator U?
NiCd / NiMH Charge Controller with Negative dV and Peak Voltage Detection Termination, 4 V, 0 to 70 degC, 8-pin PDIP (P), Pb-Free (RoHS); PartNumber: BQ2002EPN; Manufacturer: Texas Instruments; Lead Acid: N; NiCd: Y; SubFamily: Battery Charge Management; Vin(Min)(V): 4; DatasheetVersion: SLUS132; PackageVersion: revE, Apr-2010; PackageReference: P8; PackageDescription: 8-Pin Plastic Dual-In-Line Package, Row Spacing 7.62 mm, Pitch 2.54 mm; Supplier 1: Digi-Key; Supplier Part Number 1: 296-9320-5-ND; Supplier Part Number 3: 595-BQ2002EPN; Eco-Plan: Pb-Free (RoHS); Li-Ion: N; Li-Polymer: N; NiMH: Y; Over Voltage Protection: N; Mounting Technology: Through Hole; Code_JEDEC: MS-001-BA; ComponentLink1Description: Datasheet; ComponentLink1URL: http://www.ti.com/general/docs/lit/getliterature.tsp?genericPartNumber=BQ2002E&fileType=pdf
footprint P8 (DIP, 8-Leads, Row Spacing 7.62mm, Pitch 2.54mm, Body 9.6x6.4mm)
pins: 1 TM (in) "Timer mode input. A three-level input that controls the settings for the fast charge safety timer, voltage termination mode, top-off, pulse-trickle, and voltage hold-off time.", 2 ~{LED} (hiz) "Charging output status. Open-drain output that indicates the charging status.", 3 BAT (in) "Battery input voltage. The battery voltage sense input. The input to this pin is created by a high-impedance resistor divider network connected between the positive and negative terminals of the battery.", 4 VSS (power) "System ground.", 5 TS (in) "Temperature sense input. Input for an external battery temperature monitoring thermistor.", 6 VCC (power) "Supply voltage input. 5.0V +/-20%power input.", 7 INH (in) "Charge inhibit input. When high, INH suspends the fast charge in progress. When returned low, the IC resumes operation at the point where initially suspended.", 8 CC (hiz) "Charge control output. An open-drain output used to control the charging current to the battery. CC switching to high impedance (Z) enables charging current to flow, and low to inhibit charging current. CC is modulated to (See Datasheet)"

## BQ2002EPNE4
designator U?
NiCd / NiMH Charge Controller with Negative dV and Peak Voltage Detection Termination, 4 V, 0 to 70 degC, 8-pin PDIP (P), Pb-Free (RoHS); PartNumber: BQ2002EPNE4; Manufacturer: Texas Instruments; Lead Acid: N; NiCd: Y; SubFamily: Battery Charge Management; Vin(Min)(V): 4; DatasheetVersion: SLUS132; PackageVersion: revE, Apr-2010; PackageReference: P8; PackageDescription: 8-Pin Plastic Dual-In-Line Package, Row Spacing 7.62 mm, Pitch 2.54 mm; Supplier 1: Digi-Key; Supplier Part Number 1: BQ2002EPNE4-ND; Supplier Part Number 3: 595-BQ2002EPNE4; Eco-Plan: Pb-Free (RoHS); Li-Ion: N; Li-Polymer: N; NiMH: Y; Over Voltage Protection: N; Mounting Technology: Through Hole; Code_JEDEC: MS-001-BA; ComponentLink1Description: Datasheet; ComponentLink1URL: http://www.ti.com/general/docs/lit/getliterature.tsp?genericPartNumber=BQ2002E&fileType=pdf
footprint P8 (DIP, 8-Leads, Row Spacing 7.62mm, Pitch 2.54mm, Body 9.6x6.4mm)
pins: 1 TM (in) "Timer mode input. A three-level input that controls the settings for the fast charge safety timer, voltage termination mode, top-off, pulse-trickle, and voltage hold-off time.", 2 ~{LED} (hiz) "Charging output status. Open-drain output that indicates the charging status.", 3 BAT (in) "Battery input voltage. The battery voltage sense input. The input to this pin is created by a high-impedance resistor divider network connected between the positive and negative terminals of the battery.", 4 VSS (power) "System ground.", 5 TS (in) "Temperature sense input. Input for an external battery temperature monitoring thermistor.", 6 VCC (power) "Supply voltage input. 5.0V +/-20%power input.", 7 INH (in) "Charge inhibit input. When high, INH suspends the fast charge in progress. When returned low, the IC resumes operation at the point where initially suspended.", 8 CC (hiz) "Charge control output. An open-drain output used to control the charging current to the battery. CC switching to high impedance (Z) enables charging current to flow, and low to inhibit charging current. CC is modulated to (See Datasheet)"

## BQ2002ESN
designator U?
NiCd / NiMH Charge Controller with Negative dV and Peak Voltage Detection Termination, 4 V, 0 to 70 degC, 8-pin SOIC (D), Green (RoHS & no Sb/Br); PartNumber: BQ2002ESN; Manufacturer: Texas Instruments; Lead Acid: N; NiCd: Y; SubFamily: Battery Charge Management; Vin(Min)(V): 4; DatasheetVersion: SLUS132; PackageVersion: revM, Jun-2011; PackageReference: D8; PackageDescription: 8-Pin Plastic Small Outline Integrated Circuit, 4.9 x 3.9 mm, Pitch 1.27 mm Pitch; Supplier 1: Digi-Key; Supplier Part Number 1: 296-9321-5-ND; Supplier Part Number 3: 74C7516; Eco-Plan: Green (RoHS & no Sb/Br); Li-Ion: N; Li-Polymer: N; NiMH: Y; Over Voltage Protection: N; Mounting Technology: Surface Mount; Code_JEDEC: MS-012AA; ComponentLink1Description: Datasheet; ComponentLink1URL: http://www.ti.com/general/docs/lit/getliterature.tsp?genericPartNumber=BQ2002E&fileType=pdf
footprint D8_N (SOIC, 8-Leads, Body 4.9x3.9mm, Pitch 1.27mm, IPC Medium Density)
footprint D8_L (SOIC, 8-Leads, Body 4.9x3.9mm, Pitch 1.27mm, IPC High Density)
footprint D8_M (SOIC, 8-Leads, Body 4.9x3.9mm, Pitch 1.27mm, IPC Low Density)
pins: 1 TM (in) "Timer mode input. A three-level input that controls the settings for the fast charge safety timer, voltage termination mode, top-off, pulse-trickle, and voltage hold-off time.", 2 ~{LED} (hiz) "Charging output status. Open-drain output that indicates the charging status.", 3 BAT (in) "Battery input voltage. The battery voltage sense input. The input to this pin is created by a high-impedance resistor divider network connected between the positive and negative terminals of the battery.", 4 VSS (power) "System ground.", 5 TS (in) "Temperature sense input. Input for an external battery temperature monitoring thermistor.", 6 VCC (power) "Supply voltage input. 5.0V +/- 20%power input.", 7 INH (in) "Charge inhibit input. When high, INH suspends the fast charge in progress. When returned low, the IC resumes operation at the point where initially suspended.", 8 CC (hiz) "Charge control output. An open-drain output used to control the charging current to the battery. CC switching to high impedance (Z) enables charging current to flow, and low to inhibit charging current. CC is modulated to (See Datasheet)"